# EAGLE library part PH-14 (library con-jst-ph)
HEADER
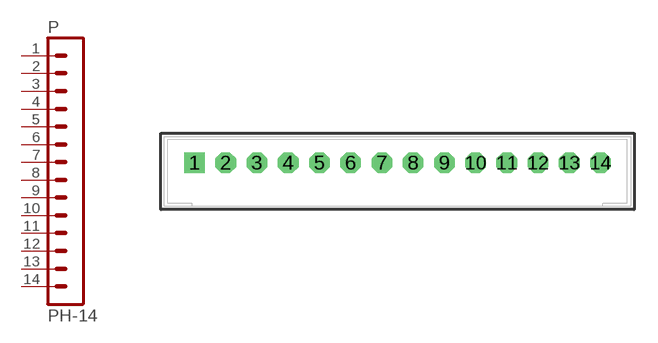
[diagram p8: symbol with the pads of B14B-PH-K; footprint B14B-PH-K]

Designator prefix P

## PH-14  [B14B-PH-K]
1  1  pas
2  2  pas
3  3  pas
4  4  pas
5  5  pas
6  6  pas
7  7  pas
8  8  pas
9  9  pas
10  10  pas
11  11  pas
12  12  pas
13  13  pas
14  14  pas

## Footprint B14B-PH-K (pad centres in mm)
HEADER
drill 0.813 square: 1 -13,0
drill 0.813 octagon: 2 -11,0; 3 -9,0; 4 -7,0; 5 -5,0; 6 -3,0; 7 -1,0; 8 1,0; 9 3,0; 10 5,0; 11 7,0; 12 9,0; 13 11,0; 14 13,0